# EAGLE library part DIGITAL8-SCL (library AtoG)
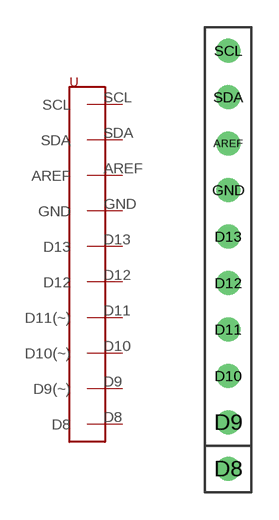
[diagram p2: symbol with the pads of DIGITAL8-SCL; footprint DIGITAL8-SCL]

Designator prefix -

## DIGITAL8-SCL  [DIGITAL8-SCL]
AREF  AREF
D8  D8
D9  D9(~)
D10  D10(~)
D11  D11(~)
D12  D12
D13  D13
GND  GND
SCL  SCL
SDA  SDA

## Footprint DIGITAL8-SCL (pad centres in mm)
drill 0.8: AREF 0,6.35; D8 0,-11.43; D9 0,-8.89; D10 0,-6.35; D11 0,-3.81; D12 0,-1.27; D13 0,1.27; GND 0,3.81; SCL 0,11.43; SDA 0,8.89